# Altium footprint library Smart Smoke Detector.PcbLib: 18 footprints (part 2 of 2)
Each footprint in its own frame and in the unit in brackets; x right, y up, seen from the top. Pads: shape width x height; smd on the part's side, far side on the other; paste and mask are expansions set on the pad; w line width, h text height; cw(c..) or ccw(c..) is an arc to the next point about the centre after c.
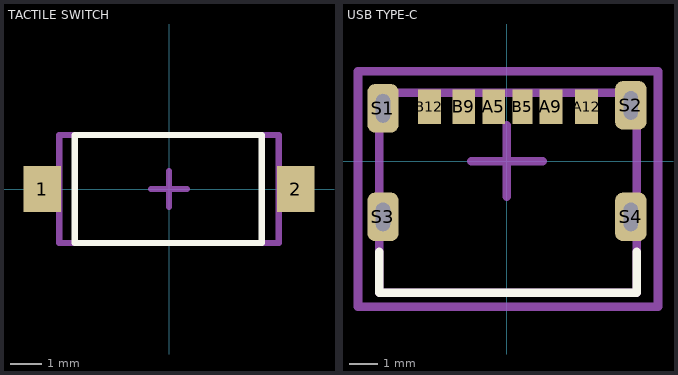
[diagram p1: the footprints below, top view; thin cyan lines are the x and y axes]

## TACTILE SWITCH [mm]
pads (2):
  rect 1.2x1.5 smd mask+0.05: 1(-4.1,0) 2(4.1,0)
Top Overlay:
  lines w0.2: -3.05,-1.75 -3.05,1.75 3,1.75 3,-1.75 -3.05,-1.75
Top 3D Body:
  lines w0.2: -3.55,-1.75 -3.55,1.75 3.55,1.75 3.55,-1.75 -3.55,-1.75
Top Component Center:
  lines w0.2: -0.575,0 0,0 ; 0,-0.575 0,0 ; 0,0.575 0,0 ; 0.575,0 0,0 ; -3.55,-1.75 3.55,-1.75 3.55,1.75 -3.55,1.75 -3.55,-1.75
Top Designator:
  lines w0.2: -3.55,-1.75 -3.55,1.75 3.55,1.75 3.55,-1.75 -3.55,-1.75
  text ".Designator" at 0.95,-0.358 h0.8
3D body "PTS636 SM43J SMTR LFS--3DModel-STEP-56544.STEP": height 4.3, standoff 0, extent -3.55,-1.75 3.55,1.75

## USB TYPE-C [mm]
pads (10):
  rect 0.8x1.2 smd mask+0.05: A5(-0.462,1.9) A9(1.538,1.9) A12(2.788,1.9) B9(-1.512,1.9) B12(-2.712,1.9)
  rect 0.7x1.2 smd mask+0.05: B5(0.538,1.9)
  rrect50% 1.1x1.7 hole 0.5 slot 1 at 90 deg mask+0.102: S1(-4.337,1.85) S2(4.338,1.95) S3(-4.337,-1.95) S4(4.338,-1.95)
Top Overlay:
  lines w0.3: -4.464,-3.175 -4.464,-4.6 0.175,-4.6 4.541,-4.6 4.541,-3.175
Top 3D Body:
  lines w0.3: -4.462,-4.6 4.538,-4.6 4.538,2.4 -4.462,2.4 -4.462,-4.6
Top Component Center:
  lines w0.3: -1.25,0 0,0 ; 0,-1.25 0,0 ; 0,1.25 0,0 ; 1.25,0 0,0 ; -5.212,-5.1 5.288,-5.1 5.288,3.15 -5.212,3.15 -5.212,-5.1
Top Designator:
  lines w0.3: -5.212,-5.1 5.288,-5.1 5.288,3.15 -5.212,3.15 -5.212,-5.1
  text ".Designator" at 0.45,-1.717 h1
3D body "USB4125-GF-A.step": height 3.26, standoff -1.25, extent -4.453,-4.539 4.487,2.361